# EAGLE library part AT32UC3C2512C-A2UT (library MILESTONE4LIB_C)
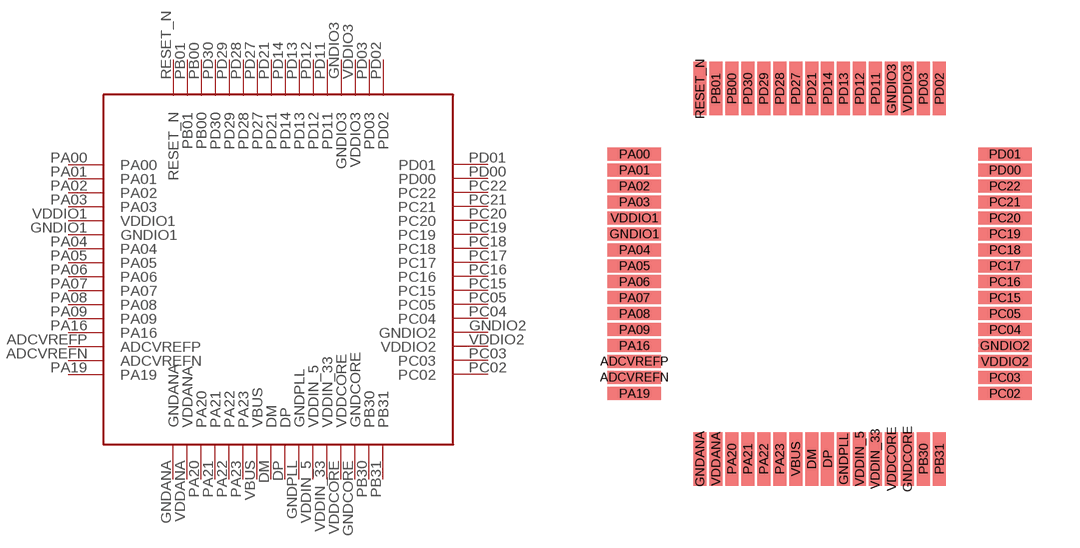
[diagram p0: symbol with the pads of TQFP-64; footprint TQFP-64]

Designator prefix -

## AT32UC3C2512C-A2UT  [TQFP-64]
ADCVREFN  ADCVREFN
ADCVREFP  ADCVREFP
DM  DM
DP  DP
GNDANA  GNDANA
GNDCORE  GNDCORE
GNDIO1  GNDIO1
GNDIO2  GNDIO2
GNDIO3  GNDIO3
GNDPLL  GNDPLL
PA00  PA00
PA01  PA01
PA02  PA02
PA03  PA03
PA04  PA04
PA05  PA05
PA06  PA06
PA07  PA07
PA08  PA08
PA09  PA09
PA16  PA16
PA19  PA19
PA20  PA20
PA21  PA21
PA22  PA22
PA23  PA23
PB00  PB00
PB01  PB01
PB30  PB30
PB31  PB31
PC02  PC02
PC03  PC03
PC04  PC04
PC05  PC05
PC15  PC15
PC16  PC16
PC17  PC17
PC18  PC18
PC19  PC19
PC20  PC20
PC21  PC21
PC22  PC22
PD00  PD00
PD01  PD01
PD02  PD02
PD03  PD03
PD11  PD11
PD12  PD12
PD13  PD13
PD14  PD14
PD21  PD21
PD27  PD27
PD28  PD28
PD29  PD29
PD30  PD30
RESET_N  RESET_N
VBUS  VBUS
VDDANA  VDDANA
VDDCORE  VDDCORE
VDDIN_5  VDDIN_5
VDDIN_33  VDDIN_33
VDDIO1  VDDIO1
VDDIO2  VDDIO2
VDDIO3  VDDIO3

## Footprint TQFP-64 (pad centres in mm)
smd 1.676 x 0.406: ADCVREFN -5.8,-3.25; ADCVREFP -5.8,-2.75; GNDIO1 -5.8,1.25; GNDIO2 5.8,-2.25; PA00 -5.8,3.75; PA01 -5.8,3.25; PA02 -5.8,2.75; PA03 -5.8,2.25; PA04 -5.8,0.75; PA05 -5.8,0.25; PA06 -5.8,-0.25; PA07 -5.8,-0.75; PA08 -5.8,-1.25; PA09 -5.8,-1.75; PA16 -5.8,-2.25; PA19 -5.8,-3.75; PC02 5.8,-3.75; PC03 5.8,-3.25; PC04 5.8,-1.75; PC05 5.8,-1.25; PC15 5.8,-0.75; PC16 5.8,-0.25; PC17 5.8,0.25; PC18 5.8,0.75; PC19 5.8,1.25; PC20 5.8,1.75; PC21 5.8,2.25; PC22 5.8,2.75; PD00 5.8,3.25; PD01 5.8,3.75; VDDIO1 -5.8,1.75; VDDIO2 5.8,-2.75
smd 0.406 x 1.676: DM -0.25,-5.8; DP 0.25,-5.8; GNDANA -3.75,-5.8; GNDCORE 2.75,-5.8; GNDIO3 2.25,5.8; GNDPLL 0.75,-5.8; PA20 -2.75,-5.8; PA21 -2.25,-5.8; PA22 -1.75,-5.8; PA23 -1.25,-5.8; PB00 -2.75,5.8; PB01 -3.25,5.8; PB30 3.25,-5.8; PB31 3.75,-5.8; PD02 3.75,5.8; PD03 3.25,5.8; PD11 1.75,5.8; PD12 1.25,5.8; PD13 0.75,5.8; PD14 0.25,5.8; PD21 -0.25,5.8; PD27 -0.75,5.8; PD28 -1.25,5.8; PD29 -1.75,5.8; PD30 -2.25,5.8; RESET_N -3.75,5.8; VBUS -0.75,-5.8; VDDANA -3.25,-5.8; VDDCORE 2.25,-5.8; VDDIN_5 1.25,-5.8; VDDIN_33 1.75,-5.8; VDDIO3 2.75,5.8